# EAGLE library part PIC12F6* (library microchip-3)
uPC nW 1k Program Flash memory 2x Timer Comparator 10b A/D converter/ 4xIN
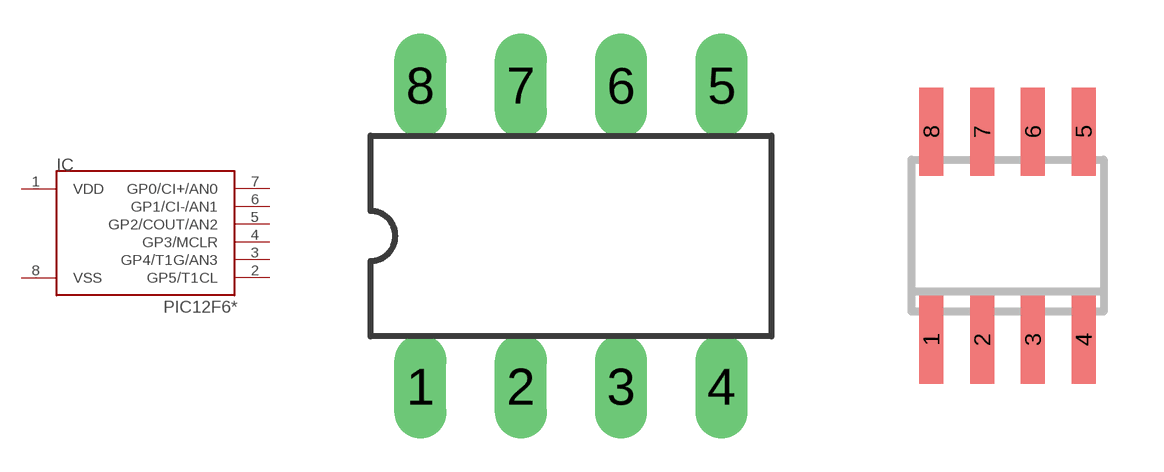
[diagram p59: symbol with the pads of DIL8; footprints DIL8, SO-08]

Designator prefix IC

## PIC12F629P, PIC12F675P  [DIL8]
1  VDD  pwr
2  GP5/T1CL
3  GP4/T1G/AN3
4  GP3/MCLR  in
5  GP2/COUT/AN2
6  GP1/CI-/AN1
7  GP0/CI+/AN0
8  VSS  pwr

## PIC12F629SN, PIC12F675SN  [SO-08]
Pads as for DIL8

## Footprint DIL8 (pad centres in mm)
Dual In Line package type P
drill 0.813 long: 1 -3.81,-3.81; 2 -1.27,-3.81; 3 1.27,-3.81; 4 3.81,-3.81; 5 3.81,3.81; 6 1.27,3.81; 7 -1.27,3.81; 8 -3.81,3.81

## Footprint SO-08 (pad centres in mm)
Small Outline Narrow Plastic Gull Wing 150-mil body, package type SN
smd 0.6 x 2.2: 1 -1.905,-2.6; 2 -0.635,-2.6; 3 0.635,-2.6; 4 1.905,-2.6; 5 1.905,2.6; 6 0.635,2.6; 7 -0.635,2.6; 8 -1.905,2.6